# Altium footprint library thermostat.PcbLib: 105 footprints (part 6 of 7)
Each footprint in its own frame and in the unit in brackets; x right, y up, seen from the top. Pads: shape width x height; smd on the part's side, far side on the other; paste and mask are expansions set on the pad; w line width, h text height; cw(c..) or ccw(c..) is an arc to the next point about the centre after c.
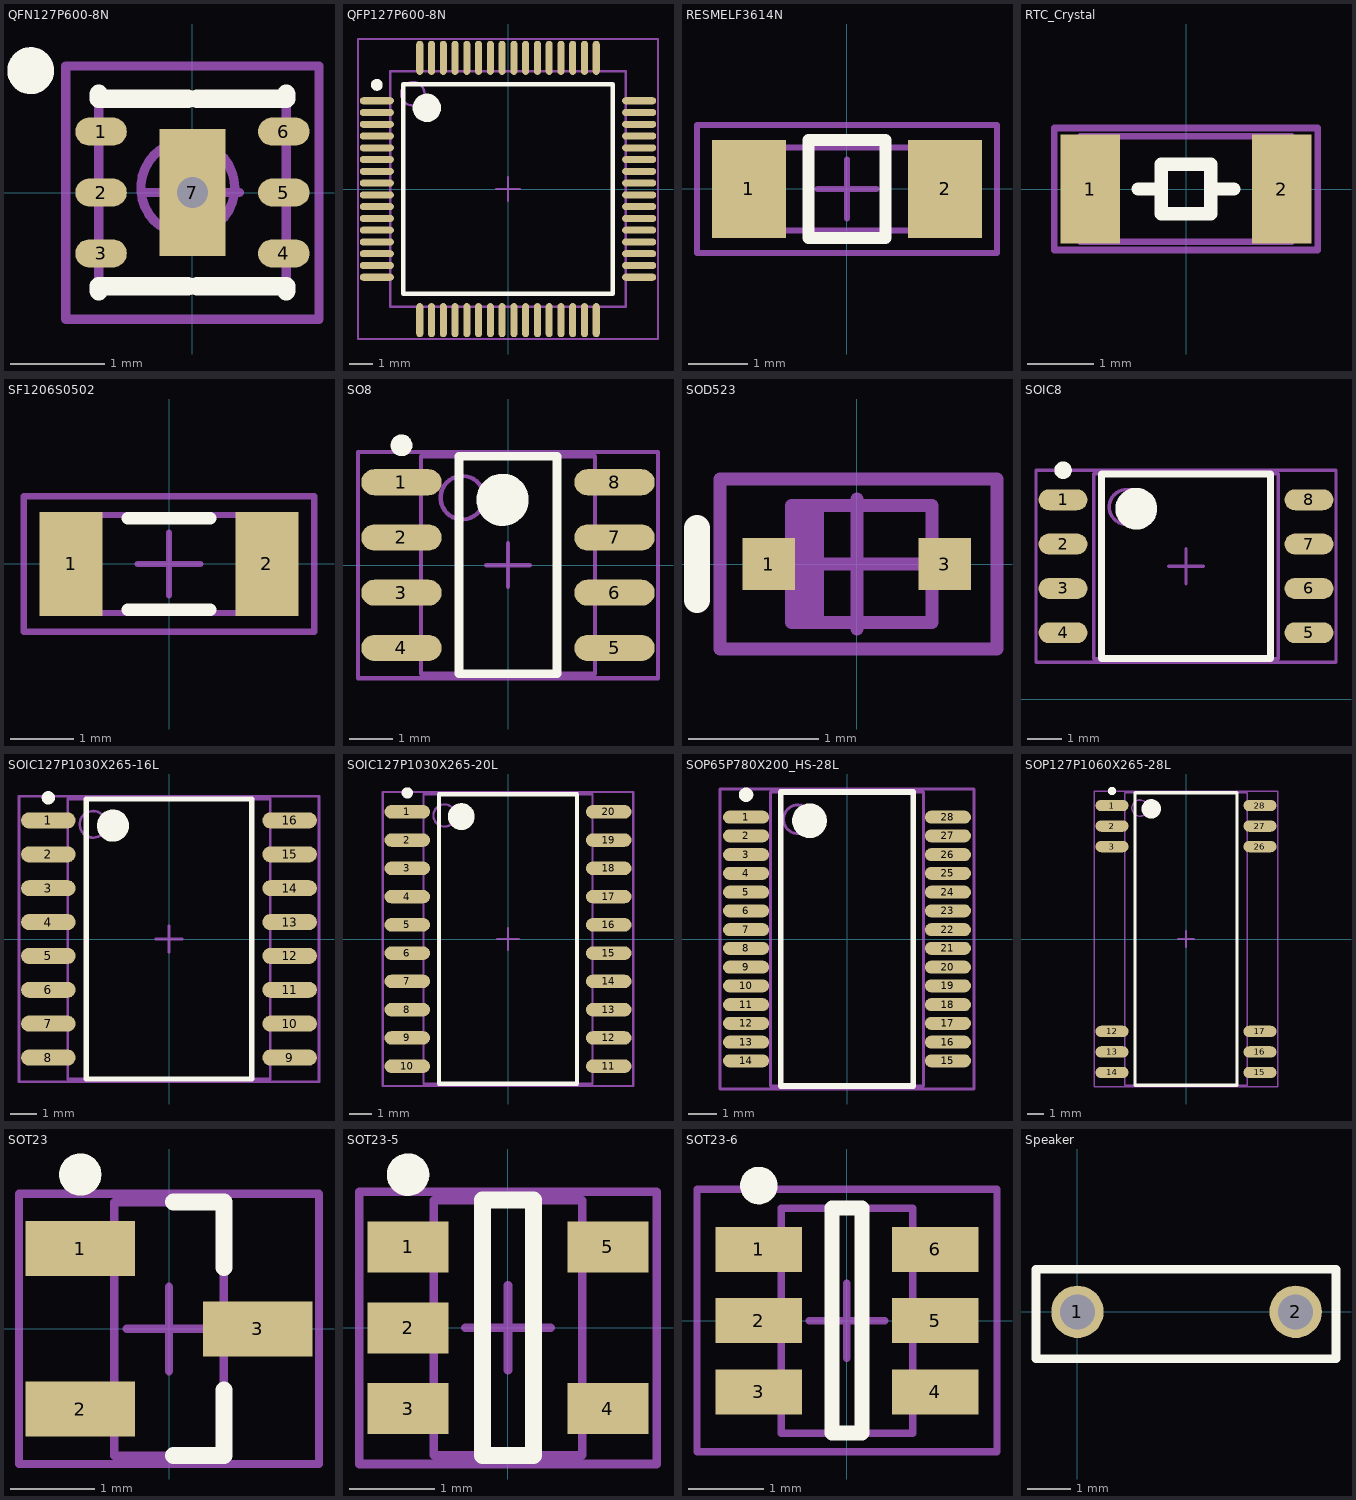
[diagram p5: the footprints below, top view; thin cyan lines are the x and y axes]

## QFN127P600-8N [mm]
height 0.6
pads (7):
  oval 0.55x0.3 smd: 1(-0.975,0.65) 2(-0.975,0) 3(-0.975,-0.65) 4(0.975,-0.65) 5(0.975,0) 6(0.975,0.65)
  rect 0.7x1.35 smd: 7(0,0)
via 0,0 diameter 0.66 hole 0.33
Top Overlay:
  circle w0.25: c-1.725,1.3 r0.125
  lines w0.2: -1,-1.05 -1,-1 -0.05,-1 ; -1,1.05 -1,1 -0.05,1 ; 0.05,-1 1,-1 1,-1.05 ; 0.05,1 1,1 1,1.05
Mechanical 13:
  circle w0.1: c-0.05,0.05 r0.5
  lines w0.1: -1,-1 1,-1 1,1 -1,1 -1,-1
Mechanical 15:
  lines w0.1: -0.5,0 0.5,0 ; 0,-0.5 0,0.5 ; -1.35,-1.35 1.35,-1.35 1.35,1.35 -1.35,1.35 -1.35,-1.35
3D body: height 0.6, standoff 0.1, extent -1,-1 1,1

## QFP127P600-8N [mm]
height 1.6
pads (64):
  oval 1.45x0.3 smd: 1(-5.575,3.75) 2(-5.575,3.25) 3(-5.575,2.75) 4(-5.575,2.25) 5(-5.575,1.75) 6(-5.575,1.25) 7(-5.575,0.75) 8(-5.575,0.25) 9(-5.575,-0.25) 10(-5.575,-0.75) 11(-5.575,-1.25) 12(-5.575,-1.75) 13(-5.575,-2.25) 14(-5.575,-2.75) 15(-5.575,-3.25) 16(-5.575,-3.75) 33(5.575,-3.75) 34(5.575,-3.25) 35(5.575,-2.75) 36(5.575,-2.25) 37(5.575,-1.75) 38(5.575,-1.25) 39(5.575,-0.75) 40(5.575,-0.25) 41(5.575,0.25) 42(5.575,0.75) 43(5.575,1.25) 44(5.575,1.75) 45(5.575,2.25) 46(5.575,2.75) 47(5.575,3.25) 48(5.575,3.75)
  oval 0.3x1.45 smd: 17(-3.75,-5.575) 18(-3.25,-5.575) 19(-2.75,-5.575) 20(-2.25,-5.575) 21(-1.75,-5.575) 22(-1.25,-5.575) 23(-0.75,-5.575) 24(-0.25,-5.575) 25(0.25,-5.575) 26(0.75,-5.575) 27(1.25,-5.575) 28(1.75,-5.575) 29(2.25,-5.575) 30(2.75,-5.575) 31(3.25,-5.575) 32(3.75,-5.575) 49(3.75,5.575) 50(3.25,5.575) 51(2.75,5.575) 52(2.25,5.575) 53(1.75,5.575) 54(1.25,5.575) 55(0.75,5.575) 56(0.25,5.575) 57(-0.25,5.575) 58(-0.75,5.575) 59(-1.25,5.575) 60(-1.75,5.575) 61(-2.25,5.575) 62(-2.75,5.575) 63(-3.25,5.575) 64(-3.75,5.575)
Top Overlay:
  circle w0.25: c-5.575,4.425 r0.125
  circle w0.6: c-3.45,3.45 r0.3
  lines w0.2: -4.45,-4.45 -4.45,4.45 4.45,4.45 4.45,-4.45 -4.45,-4.45
Mechanical 13:
  circle w0.1: c-4.05,4.05 r0.5
  lines w0.1: -5,-5 -5,5 5,5 5,-5 -5,-5
Mechanical 15:
  lines w0.1: -0.5,0 0.5,0 ; 0,-0.5 0,0.5 ; -6.375,-6.375 -6.375,6.375 6.375,6.375 6.375,-6.375 -6.375,-6.375
3D body: height 1.6, standoff 0.05, extent -5,-5 5,5

## RESMELF3614N [mm] "MELF Resistor, 2-Leads, Body 3,6x1,4mm, IPC Medium Density"
height 1.4
pads (2):
  rect 1.25x1.65 smd: 1(-1.65,0) 2(1.65,0)
Top Overlay:
  lines w0.2: -0.65,-0.825 0.65,-0.825 0.65,0.825 -0.65,0.825 -0.65,-0.825
Mechanical 13:
  lines w0.1: -1.8,-0.7 -1.8,0.7 1.8,0.7 1.8,-0.7 -1.8,-0.7
Mechanical 15:
  lines w0.1: -0.5,0 0.5,0 ; 0,-0.5 0,0.5 ; -2.525,-1.075 -2.525,1.075 2.525,1.075 2.525,-1.075 -2.525,-1.075
3D body: height 1.4, standoff 0, extent -1.8,-0.7 1.8,0.7

## RTC_Crystal [mm] "RTC Crystal, 2-Leads, Body 3,2x1,6mm, IPC High Density"
height 0.9
pads (2):
  rect 0.9x1.65 smd: 1(-1.45,0) 2(1.45,0)
Top Overlay:
  lines w0.2: -0.725,0 -0.425,0 ; 0.4,0 0.725,0 ; -0.375,-0.375 -0.375,0.375 0.375,0.375 0.375,-0.375 -0.375,-0.375
Mechanical 13:
  lines w0.1: -1.6,-0.8 1.6,-0.8 1.6,0.8 -1.6,0.8 -1.6,-0.8
Mechanical 15:
  lines w0.1: -2,-0.925 2,-0.925 2,0.925 -2,0.925 -2,-0.925
3D body: height 0.9, standoff 0, extent -1.6,-0.8 1.6,0.8

## SF1206S0502 [mm] "FUSE BOARD MNT 500MA 63VDC 1206"
height 0.6
pads (2):
  rect 1x1.65 smd: 1(-1.55,0) 2(1.55,0)
Top Overlay:
  lines w0.2: -0.65,-0.725 0.65,-0.725 ; -0.65,0.725 0.65,0.725
Mechanical 13:
  lines w0.1: -1.55,-0.775 1.55,-0.775 1.55,0.775 -1.55,0.775 -1.55,-0.775
Mechanical 15:
  lines w0.1: -0.5,0 0.5,0 ; 0,-0.5 0,0.5 ; -2.3,-1.075 2.3,-1.075 2.3,1.075 -2.3,1.075 -2.3,-1.075
3D body: height 0.6, standoff 0, extent -1.55,-0.775 1.55,0.775

## SO8 [mm] "SOIC, 8-Leads, Body 5,0x4,0mm (max), Pitch 1,27mm, IPC High Density"
height 1.75
pads (8):
  oval 1.85x0.6 smd: 1(-2.45,1.905) 2(-2.45,0.635) 3(-2.45,-0.635) 4(-2.45,-1.905) 5(2.45,-1.905) 6(2.45,-0.635) 7(2.45,0.635) 8(2.45,1.905)
Top Overlay:
  circle w0.6: c-0.125,1.5 r0.3
  circle w0.25: c-2.45,2.755 r0.125
  lines w0.2: -1.125,-2.5 1.125,-2.5 1.125,2.5 -1.125,2.5 -1.125,-2.5
Mechanical 13:
  circle w0.1: c-1.05,1.55 r0.5
  lines w0.1: -2,-2.5 2,-2.5 2,2.5 -2,2.5 -2,-2.5
Mechanical 15:
  lines w0.1: -0.5,0 0.5,0 ; 0,-0.5 0,0.5 ; -3.45,-2.6 3.45,-2.6 3.45,2.6 -3.45,2.6 -3.45,-2.6
3D body: height 1.75, standoff 0.2, extent -2,-2.5 2,2.5

## SOD523 [mm] "Molded Diode, 2-Leads, Body 1,7x0,9mm, IPC High Density"
height 0.85
pads (2):
  rect 0.4x0.4 smd: 1(-0.675,0) 3(0.675,0)
Top Overlay:
  lines w0.2: -1.225,-0.275 -1.225,0.275
Mechanical 13:
  rectangle: -0.492,-0.5 -0.25,0.5
  lines w0.1: -0.5,-0.45 -0.5,0.45 0.575,0.45 0.575,-0.45 -0.5,-0.45
Mechanical 15:
  lines w0.1: -0.5,0 0.5,0 ; 0,-0.5 0,0.5 ; -1.05,-0.65 -1.05,0.65 1.075,0.65 1.075,-0.65 -1.05,-0.65
3D body: height 0.85, standoff 0, extent -0.525,-0.5 0.6,0.5

## SOIC8 [mm] "SOIC, 8-Leads, Body 5,3x5,3mm (max), Pitch 1,27mm, IPC High Density"
height 2.65
pads (8):
  oval 1.4x0.6 smd: 1(-10.575,5.715) 2(-10.575,4.445) 3(-10.575,3.175) 4(-10.575,1.905) 5(-3.525,1.905) 6(-3.525,3.175) 7(-3.525,4.445) 8(-3.525,5.715)
Top Overlay:
  circle w0.6: c-8.475,5.46 r0.3
  circle w0.25: c-10.575,6.565 r0.125
  lines w0.2: -9.475,1.16 -4.625,1.16 -4.625,6.46 -9.475,6.46 -9.475,1.16
Mechanical 13:
  circle w0.1: c-8.75,5.51 r0.5
  lines w0.1: -9.7,1.16 -4.4,1.16 -4.4,6.46 -9.7,6.46 -9.7,1.16
Mechanical 15:
  lines w0.1: -7.55,3.81 -6.55,3.81 ; -7.05,3.31 -7.05,4.31 ; -11.35,1.06 -2.75,1.06 -2.75,6.56 -11.35,6.56 -11.35,1.06
3D body: height 2.65, standoff 0.2, extent -9.7,1.16 -4.4,6.46

## SOIC127P1030X265-16L [mm] "SOIC, 16-Leads, Body 10,5x7,6mm (max), Pitch 1,27mm, IPC High Density"
height 2.65
pads (16):
  oval 2.05x0.6 smd: 1(-4.525,4.445) 2(-4.525,3.175) 3(-4.525,1.905) 4(-4.525,0.635) 5(-4.525,-0.635) 6(-4.525,-1.905) 7(-4.525,-3.175) 8(-4.525,-4.445) 9(4.525,-4.445) 10(4.525,-3.175) 11(4.525,-1.905) 12(4.525,-0.635) 13(4.525,0.635) 14(4.525,1.905) 15(4.525,3.175) 16(4.525,4.445)
Top Overlay:
  circle w0.25: c-4.525,5.295 r0.125
  circle w0.6: c-2.1,4.25 r0.3
  lines w0.2: -3.1,-5.25 -3.1,5.25 3.1,5.25 3.1,-5.25 -3.1,-5.25
Mechanical 13:
  circle w0.1: c-2.85,4.3 r0.5
  lines w0.1: -3.8,-5.25 -3.8,5.25 3.8,5.25 3.8,-5.25 -3.8,-5.25
Mechanical 15:
  lines w0.1: -0.5,0 0.5,0 ; 0,-0.5 0,0.5 ; -5.625,-5.35 -5.625,5.35 5.625,5.35 5.625,-5.35 -5.625,-5.35
3D body: height 2.65, standoff 0.2, extent -3.8,-5.25 3.8,5.25

## SOIC127P1030X265-20L [mm] "SOIC, 20-Leads, Body 13,0x7,6mm (max), Pitch 1,27mm, IPC High Density"
height 2.65
pads (20):
  oval 2.05x0.6 smd: 1(-4.525,5.715) 2(-4.525,4.445) 3(-4.525,3.175) 4(-4.525,1.905) 5(-4.525,0.635) 6(-4.525,-0.635) 7(-4.525,-1.905) 8(-4.525,-3.175) 9(-4.525,-4.445) 10(-4.525,-5.715) 11(4.525,-5.715) 12(4.525,-4.445) 13(4.525,-3.175) 14(4.525,-1.905) 15(4.525,-0.635) 16(4.525,0.635) 17(4.525,1.905) 18(4.525,3.175) 19(4.525,4.445) 20(4.525,5.715)
Top Overlay:
  circle w0.25: c-4.525,6.565 r0.125
  circle w0.6: c-2.1,5.5 r0.3
  lines w0.2: -3.1,-6.5 -3.1,6.5 3.1,6.5 3.1,-6.5 -3.1,-6.5
Mechanical 13:
  circle w0.1: c-2.85,5.55 r0.5
  lines w0.1: -3.8,-6.5 -3.8,6.5 3.8,6.5 3.8,-6.5 -3.8,-6.5
Mechanical 15:
  lines w0.1: -0.5,0 0.5,0 ; 0,-0.5 0,0.5 ; -5.625,-6.6 -5.625,6.6 5.625,6.6 5.625,-6.6 -5.625,-6.6
3D body: height 2.65, standoff 0.2, extent -3.8,-6.5 3.8,6.5

## SOP65P780X200_HS-28L [mm] "SOP, 28-Leads, Body 10,2x5,3mm (max), Pitch 0,65mm, IPC High Density"
height 2
pads (28):
  oval 1.6x0.45 smd: 1(-3.5,4.225) 2(-3.5,3.575) 3(-3.5,2.925) 4(-3.5,2.275) 5(-3.5,1.625) 6(-3.5,0.975) 7(-3.5,0.325) 8(-3.5,-0.325) 9(-3.5,-0.975) 10(-3.5,-1.625) 11(-3.5,-2.275) 12(-3.5,-2.925) 13(-3.5,-3.575) 14(-3.5,-4.225) 15(3.5,-4.225) 16(3.5,-3.575) 17(3.5,-2.925) 18(3.5,-2.275) 19(3.5,-1.625) 20(3.5,-0.975) 21(3.5,-0.325) 22(3.5,0.325) 23(3.5,0.975) 24(3.5,1.625) 25(3.5,2.275) 26(3.5,2.925) 27(3.5,3.575) 28(3.5,4.225)
Top Overlay:
  circle w0.6: c-1.3,4.1 r0.3
  circle w0.25: c-3.5,5 r0.125
  lines w0.2: -2.3,-5.1 2.3,-5.1 2.3,5.1 -2.3,5.1 -2.3,-5.1
Mechanical 13:
  circle w0.1: c-1.7,4.15 r0.5
  lines w0.1: -2.65,-5.1 2.65,-5.1 2.65,5.1 -2.65,5.1 -2.65,-5.1
Mechanical 15:
  lines w0.1: -4.4,-5.2 4.4,-5.2 4.4,5.2 -4.4,5.2 -4.4,-5.2
3D body: height 2, standoff 0.2, extent -2.65,-5.1 2.65,5.1

## SOP127P1060X265-28L [mm] "SOP, 28-Leads, Body 18,1x7,6mm (max), Pitch 1,27mm, IPC High Density"
height 2.65
pads (12):
  oval 2.05x0.7 smd: 1(-4.575,8.255) 2(-4.575,6.985) 3(-4.575,5.715) 12(-4.575,-5.715) 13(-4.575,-6.985) 14(-4.575,-8.255) 15(4.575,-8.255) 16(4.575,-6.985) 17(4.575,-5.715) 26(4.575,5.715) 27(4.575,6.985) 28(4.575,8.255)
Top Overlay:
  circle w0.6: c-2.15,8.05 r0.3
  circle w0.25: c-4.575,9.155 r0.125
  lines w0.2: -3.15,-9.05 3.15,-9.05 3.15,9.05 -3.15,9.05 -3.15,-9.05
Mechanical 13:
  circle w0.1: c-2.85,8.1 r0.5
  lines w0.1: -3.8,-9.05 3.8,-9.05 3.8,9.05 -3.8,9.05 -3.8,-9.05
Mechanical 15:
  lines w0.1: -0.5,0 0.5,0 ; 0,-0.5 0,0.5 ; -5.675,-9.15 5.675,-9.15 5.675,9.15 -5.675,9.15 -5.675,-9.15
3D body: height 2.65, standoff 0.2, extent -3.8,-9.05 3.8,9.05

## SOT23 [mm]
height 1
pads (3):
  rect 1.3x0.65 smd: 1(-1.05,0.95) 2(-1.05,-0.95) 3(1.05,0)
Top Overlay:
  circle w0.25: c-1.05,1.825 r0.125
  lines w0.2: 0.05,-1.5 0.65,-1.5 0.65,-0.725 ; 0.05,1.5 0.65,1.5 0.65,0.725
Mechanical 13:
  lines w0.1: -0.65,-1.5 -0.65,1.5 0.65,1.5 0.65,-1.5 -0.65,-1.5
Mechanical 15:
  lines w0.1: -0.5,0 0.5,0 ; 0,-0.5 0,0.5 ; -1.775,-1.6 -1.775,1.6 1.775,1.6 1.775,-1.6 -1.775,-1.6
3D body: height 1, standoff 0.15, extent -0.65,-1.5 0.65,1.5

## SOT23-5 [mm] "SOT23, 5-Leads, Body 3,0x3,0mm (max), Pitch 0,95mm, IPC High Density"
height 1.45
pads (5):
  rect 0.95x0.6 smd: 1(-1.175,0.95) 2(-1.175,0) 3(-1.175,-0.95) 4(1.175,-0.95) 5(1.175,0.95)
Top Overlay:
  circle w0.25: c-1.175,1.8 r0.125
  lines w0.2: -0.3,-1.5 -0.3,1.5 0.3,1.5 0.3,-1.5 -0.3,-1.5
Mechanical 13:
  lines w0.1: -0.875,-1.5 0.875,-1.5 0.875,1.5 -0.875,1.5 -0.875,-1.5
Mechanical 15:
  lines w0.1: -0.5,0 0.5,0 ; 0,-0.5 0,0.5 ; -1.75,-1.6 1.75,-1.6 1.75,1.6 -1.75,1.6 -1.75,-1.6
3D body: height 1.45, standoff 0.15, extent -0.875,-1.5 0.875,1.5

## SOT23-6 [mm] "SOT23, 6-Leads, Body 3,0x3,0mm (max), Pitch 0,95mm, IPC Medium Density"
height 1.45
pads (6):
  rect 1.15x0.6 smd: 1(-1.175,0.95) 2(-1.175,0) 3(-1.175,-0.95) 4(1.175,-0.95) 5(1.175,0) 6(1.175,0.95)
Top Overlay:
  circle w0.25: c-1.175,1.8 r0.125
  lines w0.2: -0.2,-1.5 0.2,-1.5 0.2,1.5 -0.2,1.5 -0.2,-1.5
Mechanical 13:
  lines w0.1: -0.875,-1.5 -0.875,1.5 0.875,1.5 0.875,-1.5 -0.875,-1.5
Mechanical 15:
  lines w0.1: -0.5,0 0.5,0 ; 0,-0.5 0,0.5 ; -2,-1.75 -2,1.75 2,1.75 2,-1.75 -2,-1.75
3D body: height 1.45, standoff 0.15, extent -0.875,-1.5 0.875,1.5

## Speaker [mm]
pads (2):
  round 1.2 hole 0.8: 1(0,0) 2(5,0)
Top Overlay:
  lines w0.2: 5.925,0.95 5.925,-1.075 -0.95,-1.075 -0.95,0.975 5.925,0.975